# EAGLE library part M74HC563B1R (library ST Microelectronics)
OCTAL D-TYPE LATCH
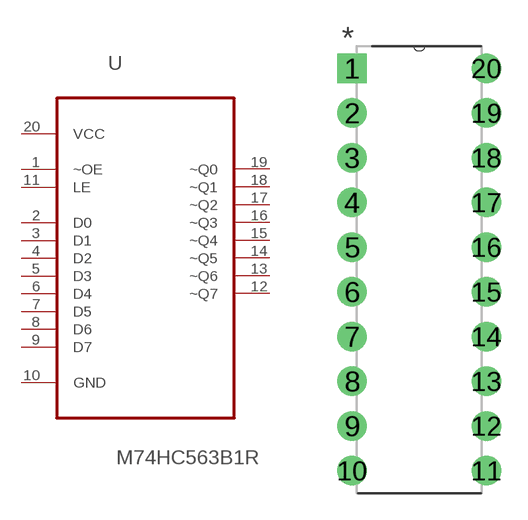
[diagram p246: symbol with the pads of DIP254P762X393-20; footprint DIP254P762X393-20]

Designator prefix U

## M74HC563B1R (MPN: M74HC563B1R; OC_FARNELL: 1218313; OC_NEWARK: 26M1818; PACKAGE: PDIP-20; SUPPLIER: STMICROELECTRONICS)  [DIP254P762X393-20]
1  ~OE  in
2  D0  in
3  D1  in
4  D2  in
5  D3  in
6  D4  in
7  D5  in
8  D6  in
9  D7  in
10  GND  pas
11  LE  in
12  ~Q7  out
13  ~Q6  out
14  ~Q5  out
15  ~Q4  out
16  ~Q3  out
17  ~Q2  out
18  ~Q1  out
19  ~Q0  out
20  VCC  pwr

## Footprint DIP254P762X393-20 (pad centres in mm)
drill 1.118 square: 1 -7.62,22.86
drill 1.118: 2 -7.62,20.32; 3 -7.62,17.78; 4 -7.62,15.24; 5 -7.62,12.7; 6 -7.62,10.16; 7 -7.62,7.62; 8 -7.62,5.08; 9 -7.62,2.54; 10 -7.62,0; 11 0,0; 12 0,2.54; 13 0,5.08; 14 0,7.62; 15 0,10.16; 16 0,12.7; 17 0,15.24; 18 0,17.78; 19 0,20.32; 20 0,22.86